# EAGLE library part MOL-6CKTS-2MM (library LIC_ALL-00)
DURACLIK 2.00MM (.079") PITCH WIRE-TO-BOARD CONNECTORS Specifications:  Housing: Receptacle PBT White, Header PBT Beige  Contact Plating: Tin  Voltage: 125V max.  Current: 3A max. Features:  Secure inner lock system  Wide/long end fitting solder nails  SMT tail protector  Positive lock with audible click Part NO.: 502351-0600
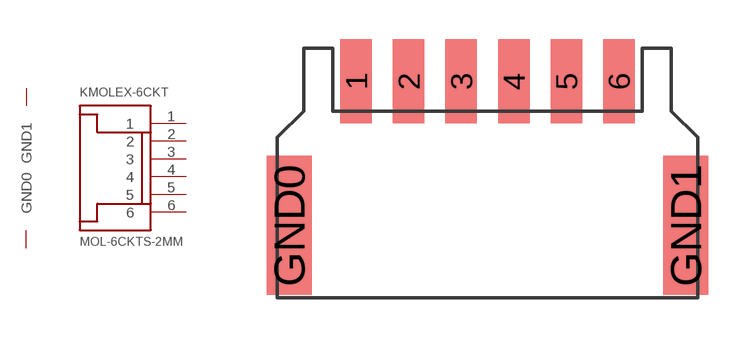
[diagram p1: symbol with the pads of 6CKTS; footprint 6CKTS]

Designator prefix K; gates MOLEX-6CKT=502351-0600 GND=GND-PINS

## MOL-6CKTS-2MM"6-PIN  [6CKTS]
1  MOLEX-6CKT:1
2  MOLEX-6CKT:2
3  MOLEX-6CKT:3
4  MOLEX-6CKT:4
5  MOLEX-6CKT:5
6  MOLEX-6CKT:6
GND0  GND:GND0  pwr
GND1  GND:GND1  pwr

## Footprint 6CKTS (pad centres in mm)
smd 1.2 x 3.2: 1 -5,8.13; 2 -3,8.13; 3 -1,8.13; 4 1,8.13; 5 3,8.13; 6 5,8.13
smd 1.7 x 5.3: GND0 -7.55,2.65; GND1 7.55,2.65